# Altium footprint library TL3305.PcbLib: 1 footprints
Each footprint in its own frame and in the unit in brackets; x right, y up, seen from the top. Pads: shape width x height; smd on the part's side, far side on the other; paste and mask are expansions set on the pad; w line width, h text height; cw(c..) or ccw(c..) is an arc to the next point about the centre after c.
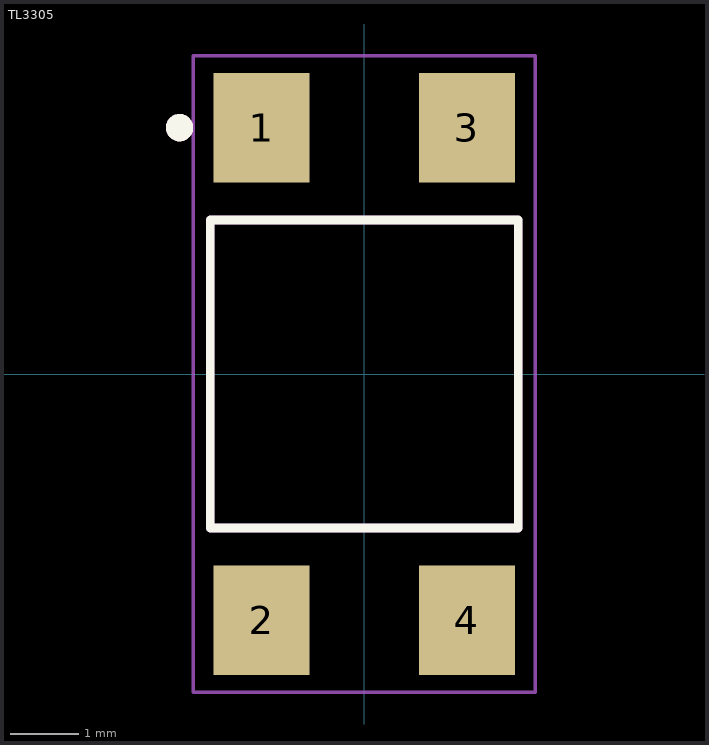
[diagram p0: the footprint, top view; thin cyan lines are the x and y axes]

## TL3305 [mm] "TL3305 SPST-NO"
pads (4):
  rect 1.4x1.6 smd: 1(-1.5,3.6) 2(-1.5,-3.6) 3(1.5,3.6) 4(1.5,-3.6)
Top Overlay:
  circle w0.2: c-2.7,3.6 r0.1
  lines w0.127: -2.25,-2.25 -2.25,2.25 2.25,2.25 2.25,-2.25 -2.25,-2.25
Mechanical 13:
  circle w0.2: c-2.7,3.6 r0.1
  lines w0.127: -2.25,-2.25 -2.25,2.25 2.25,2.25 2.25,-2.25 -2.25,-2.25
Mechanical 15:
  lines w0.05: -2.5,-4.65 -2.5,4.65 2.5,4.65 2.5,-4.65 -2.5,-4.65